# EAGLE library part SHF105 (library reclone-rise)
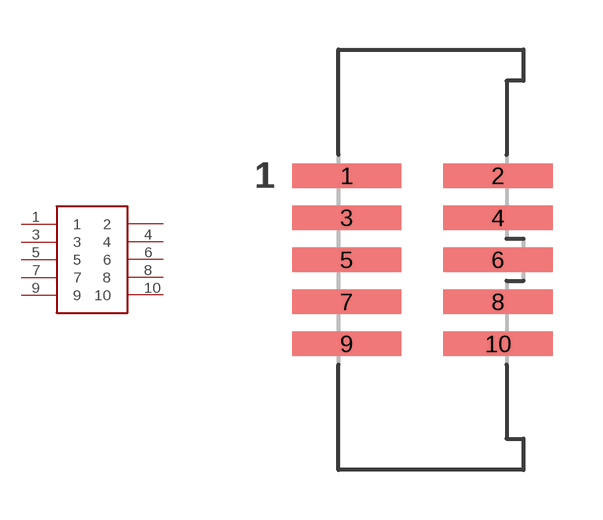
[diagram p12: symbol with the pads of SHF105DSM; footprint SHF105DSM]

Designator prefix -

## SHF105  [SHF105DSM]
1  1  pas
2  2  pas
3  3  pas
4  4  pas
5  5  pas
6  6  pas
7  7  pas
8  8  pas
9  9  pas
10  10  pas

## Footprint SHF105DSM (pad centres in mm)
smd 3.302 x 0.737: 1 -2.286,2.54; 2 2.286,2.54; 3 -2.286,1.27; 4 2.286,1.27; 5 -2.286,0; 6 2.286,0; 7 -2.286,-1.27; 8 2.286,-1.27; 9 -2.286,-2.54; 10 2.286,-2.54